# EAGLE library part SCREEN (library ME433-2021)
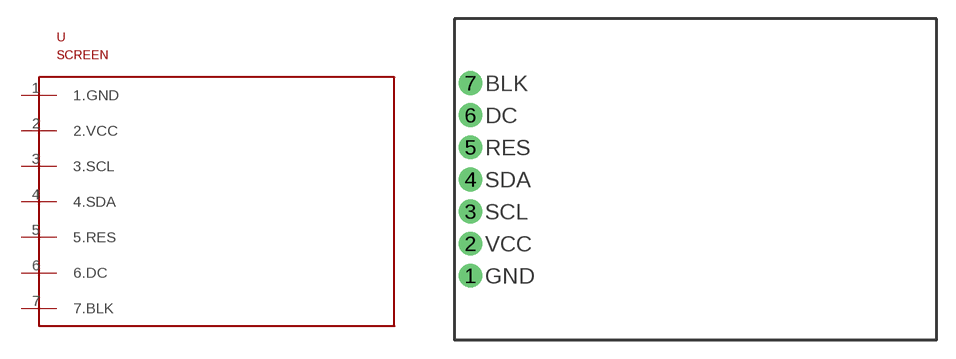
[diagram p10: symbol with the pads of SCREEN; footprint SCREEN]

Designator prefix -

## SCREEN  [SCREEN]
1  1.GND
2  2.VCC
3  3.SCL
4  4.SDA
5  5.RES
6  6.DC
7  7.BLK

## Footprint SCREEN (pad centres in mm)
drill 1.016 pad 1.88: 1 0,-7.62; 2 0,-5.08; 3 0,-2.54; 4 0,0; 5 0,2.54; 6 0,5.08; 7 0,7.62